# EAGLE library part TPS6217X (library Bat-Components)
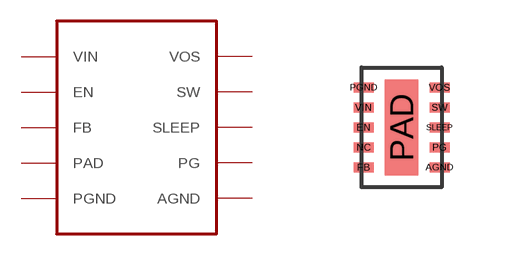
[diagram p12: symbol with the pads of DQC; footprint DQC]

Designator prefix -

## TPS6217X  [DQC]
AGND  AGND
EN  EN
FB  FB
PAD  PAD
PG  PG
PGND  PGND
SLEEP  SLEEP
SW  SW
VIN  VIN
VOS  VOS

## Footprint DQC (pad centres in mm)
smd 0.5 x 0.25: AGND 0.95,-1; EN -0.95,0; FB -0.95,-1; NC -0.95,-0.5; PG 0.95,-0.5; PGND -0.95,1; SLEEP 0.95,0; SW 0.95,0.5; VIN -0.95,0.5; VOS 0.95,1
smd 0.84 x 2.4: PAD 0,0